# Altium footprint library XL4005_5A.PcbLib: 9 footprints
Each footprint in its own frame and in the unit in brackets; x right, y up, seen from the top. Pads: shape width x height; smd on the part's side, far side on the other; paste and mask are expansions set on the pad; w line width, h text height; cw(c..) or ccw(c..) is an arc to the next point about the centre after c.
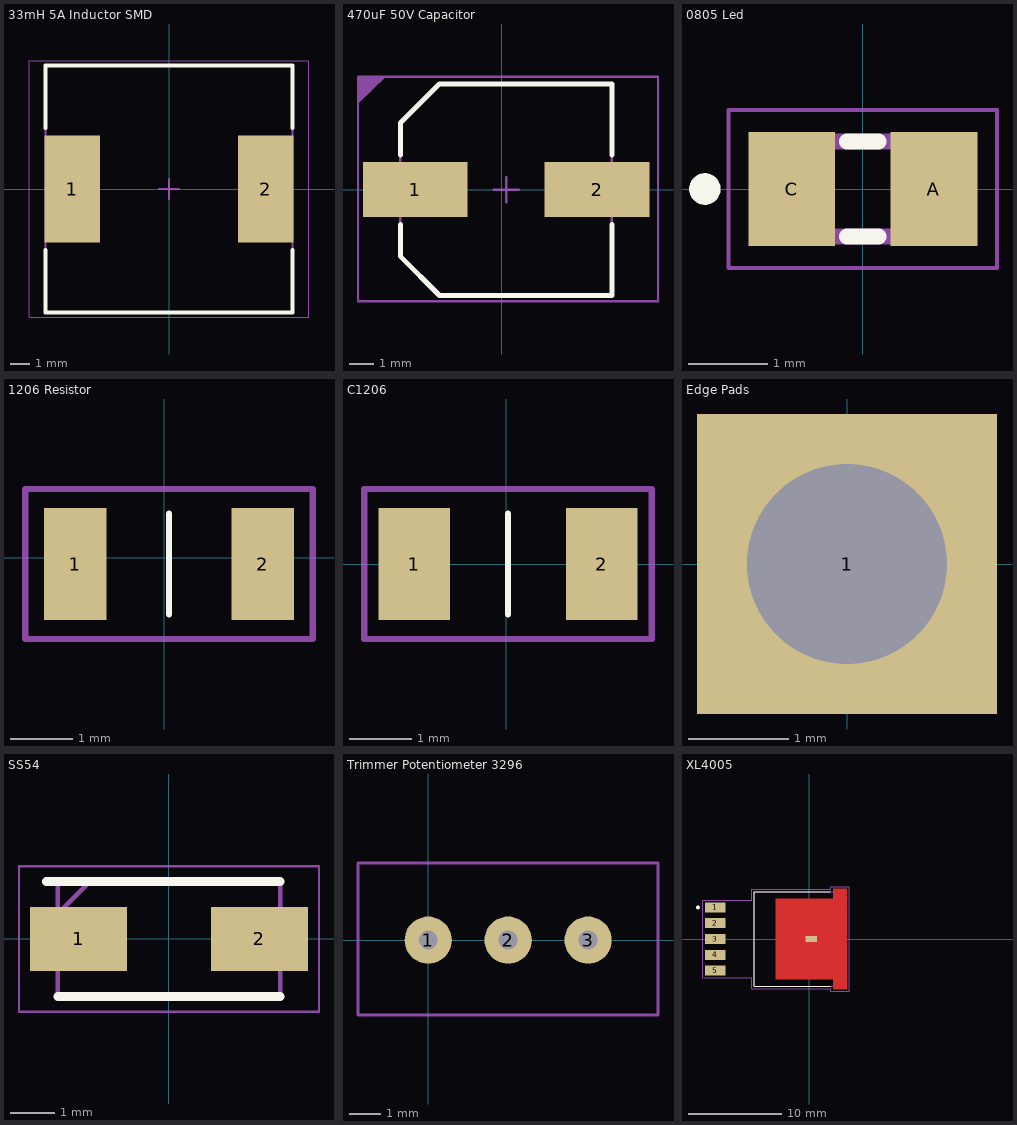
[diagram p0: the footprints below, top view; thin cyan lines are the x and y axes]

## 33mH 5A Inductor SMD [mm]
pads (2):
  rect 2.8x5.4 smd: 1(-4.9,0) 2(4.9,0)
Top Overlay:
  lines w0.2: -6.25,-3.1 -6.25,-6.25 6.25,-6.25 6.25,-3.1 ; -6.25,3.1 -6.25,6.25 6.25,6.25 6.25,3.1
Mechanical 13:
  lines w0.1: -6.25,-6.25 6.25,-6.25 6.25,6.25 -6.25,6.25 -6.25,-6.25
Mechanical 15:
  lines w0.05: -7.075,-6.5 7.075,-6.5 7.075,6.5 -7.075,6.5 -7.075,-6.5
  lines w0.1: -0.5,0 0.5,0 ; 0,-0.5 0,0.5
3D body: height 8, standoff 0, extent -6.25,-6.25 6.25,6.25

## 470uF 50V Capacitor [mm]
pads (2):
  rect 4.2x2.2 smd: 1(-3.47,0) 2(3.83,0)
Top Overlay:
  lines w0.2: -4.07,-1.4 -4.07,-2.675 -2.495,-4.25 4.43,-4.25 4.43,-1.4 ; -4.07,1.4 -4.07,2.675 -2.495,4.25 4.43,4.25 4.43,1.4
Mechanical 3:
  region: -5.77,3.463 -5.77,4.5 -4.674,4.5 -4.649,4.525
  lines w0.1: 6.256,4.525 -5.745,4.525 -5.77,4.5 -5.77,-4.475 6.28,-4.475 6.28,-4.275 6.28,4.525
Mechanical 13:
  lines w0.1: -4.07,-2.675 -4.07,2.675 -2.495,4.25 4.43,4.25 4.43,-4.25 -2.495,-4.25 -4.07,-2.675
Mechanical 15:
  lines w0.1: -0.32,0 0.68,0 ; 0.18,-0.5 0.18,0.5
3D body: height 10.5, standoff 0, extent -4.07,-4.25 4.43,4.25
3D body: height 3.5, standoff 0, extent -4.07,-4.25 4.43,4.25

## 0805 Led [mm]
pads (2):
  rect 1.1x1.45 smd: A(0.9,0) C(-0.9,0)
Top Overlay:
  circle w0.2: c-2,0 r0.1
  lines w0.2: -0.2,-0.6 0.2,-0.6 ; -0.2,0.6 0.2,0.6
Mechanical 13:
  region: -0.5,-0.6 -1,-0.6 -1,0.6 -0.5,0.6
  region: 1,-0.6 0.5,-0.6 0.5,0.6 1,0.6
  lines w0.2: -1,-0.6 1,-0.6 1,0.6 -1,0.6 -1,-0.6
Mechanical 15:
  lines w0.05: -1.7,-1 1.7,-1 1.7,1 -1.7,1 -1.7,-1
3D body "step_temp.STEP": height 0.9, standoff 0, extent -1,-0.65 1,0.65

## 1206 Resistor [mm]
pads (2):
  rect 1x1.8 smd mask+0.05: 1(-1.425,-0.1) 2(1.575,-0.1)
Top Overlay:
  lines w0.1: 0.075,-0.905 0.075,0.705
Mechanical 3:
  lines w0.1: -2.225,-1.3 -2.225,1.1 2.375,1.1 2.375,-1.3 -2.225,-1.3
3D body "1206RES.step": height 0.55, standoff 0, extent -1.525,-0.905 1.675,0.705

## C1206 [mm] "33nF Capacitor"
pads (2):
  rect 1.15x1.8 smd mask+0.05: 1(-1.475,0) 2(1.525,0)
Top Overlay:
  lines w0.1: 0.025,-0.805 0.025,0.805
Mechanical 3:
  lines w0.1: -2.275,-1.2 2.325,-1.2 2.325,1.2 -2.275,1.2 -2.275,-1.2
3D body "1206CAP.step": height 1, standoff 0, extent -1.575,-0.8 1.625,0.8

## Edge Pads [mm]
pads (1):
  rect 3x3 hole 2: 1(0,0)

## SS54 [mm] "Schottky Diode"
height 0.1
pads (2):
  rect 2.2x1.45 smd: 1(-2.05,0) 2(2.05,0)
Top Overlay:
  lines w0.2: -2.775,1.3 2.52,1.3 ; -2.52,-1.3 2.52,-1.3
Mechanical 15:
  lines w0.1: -2.52,0.575 -1.795,1.3 ; -2.52,-1.3 -2.52,1.3 2.52,1.3 2.52,-1.3 -2.52,-1.3
Mechanical 20:
  lines w0.05: -3.4,-1.65 -3.4,1.65 3.4,1.65 3.4,-1.65 -3.4,-1.65
3D body "SS54 SMA.STEP": height 2, standoff 0, extent -2.35,-1.3 2.35,1.3

## Trimmer Potentiometer 3296 [mm] "10k"
pads (4):
  round 1.5 hole 0.6: 1(0,0) 2(2.54,0) 2(2.54,0) 3(5.08,0)
Mechanical 15:
  lines w0.1: -2.23,-2.381 7.3,-2.381 7.3,2.45 -2.23,2.45 -2.23,-2.381
3D body "User Library-bourns 3296 pot.step": height 11.55, standoff -6.4, extent -2.23,-2.381 7.3,2.45

## XL4005 [mm]
pads (7):
  rect 2.16x1.07 smd: 1(-10.135,3.425) 2(-10.135,1.725) 3(-10.135,0.025) 4(-10.135,-1.675) 5(-10.135,-3.375)
  rect 1.27x0.635 smd paste-2 mask+0: 3.1(0.2,0.025)
  round 0 smd: 17(20.193,3.556)
Top Layer:
  region: 4.035,-5.375 2.565,-5.375 2.565,-4.325 -3.635,-4.325 -3.635,4.375 2.565,4.375 2.565,5.425 4.035,5.425
Top Overlay:
  circle w0.2: c-12,3.425 r0.1
  lines w0.127: 2.25,-5.055 -5.935,-5.055 -5.935,5.105 2.25,5.105
Top Paste:
  region: -0.4,0.905 -3,0.905 -3,3.505 -0.4,3.505
  region: 3.4,-3.455 0.8,-3.455 0.8,-0.855 3.4,-0.855
  region: -0.4,-3.455 -3,-3.455 -3,-0.855 -0.4,-0.855
  region: 3.4,0.905 0.8,0.905 0.8,3.505 3.4,3.505
Top Solder:
  region: 4.135,-5.475 2.465,-5.475 2.465,-4.425 -3.735,-4.425 -3.735,4.475 2.465,4.475 2.465,5.525 4.135,5.525
Mechanical 13:
  circle w0.2: c-12,3.425 r0.1
  lines w0.127: -5.935,-5.055 4.035,-5.055 4.035,5.105 -5.935,5.105 -5.935,-5.055
Mechanical 15:
  lines w0.05: -11.465,-4.16 -6.185,-4.16 -6.185,-5.305 2.32,-5.305 2.32,-5.625 4.285,-5.625 4.285,5.675 2.32,5.675 2.32,5.355 -6.185,5.355 -6.185,4.21 -11.465,4.21 -11.465,-4.16
3D body "XL4015--3DModel-STEP-56544.STEP": height 4.83, standoff 0, extent -10.825,-5.08 3.835,5.08